# Altium footprint library SEG_pressure gauge_don  V3.0.PcbLib: 25 footprints (part 1 of 2)
Each footprint in its own frame and in the unit in brackets; x right, y up, seen from the top. Pads: shape width x height; smd on the part's side, far side on the other; paste and mask are expansions set on the pad; w line width, h text height; cw(c..) or ccw(c..) is an arc to the next point about the centre after c.
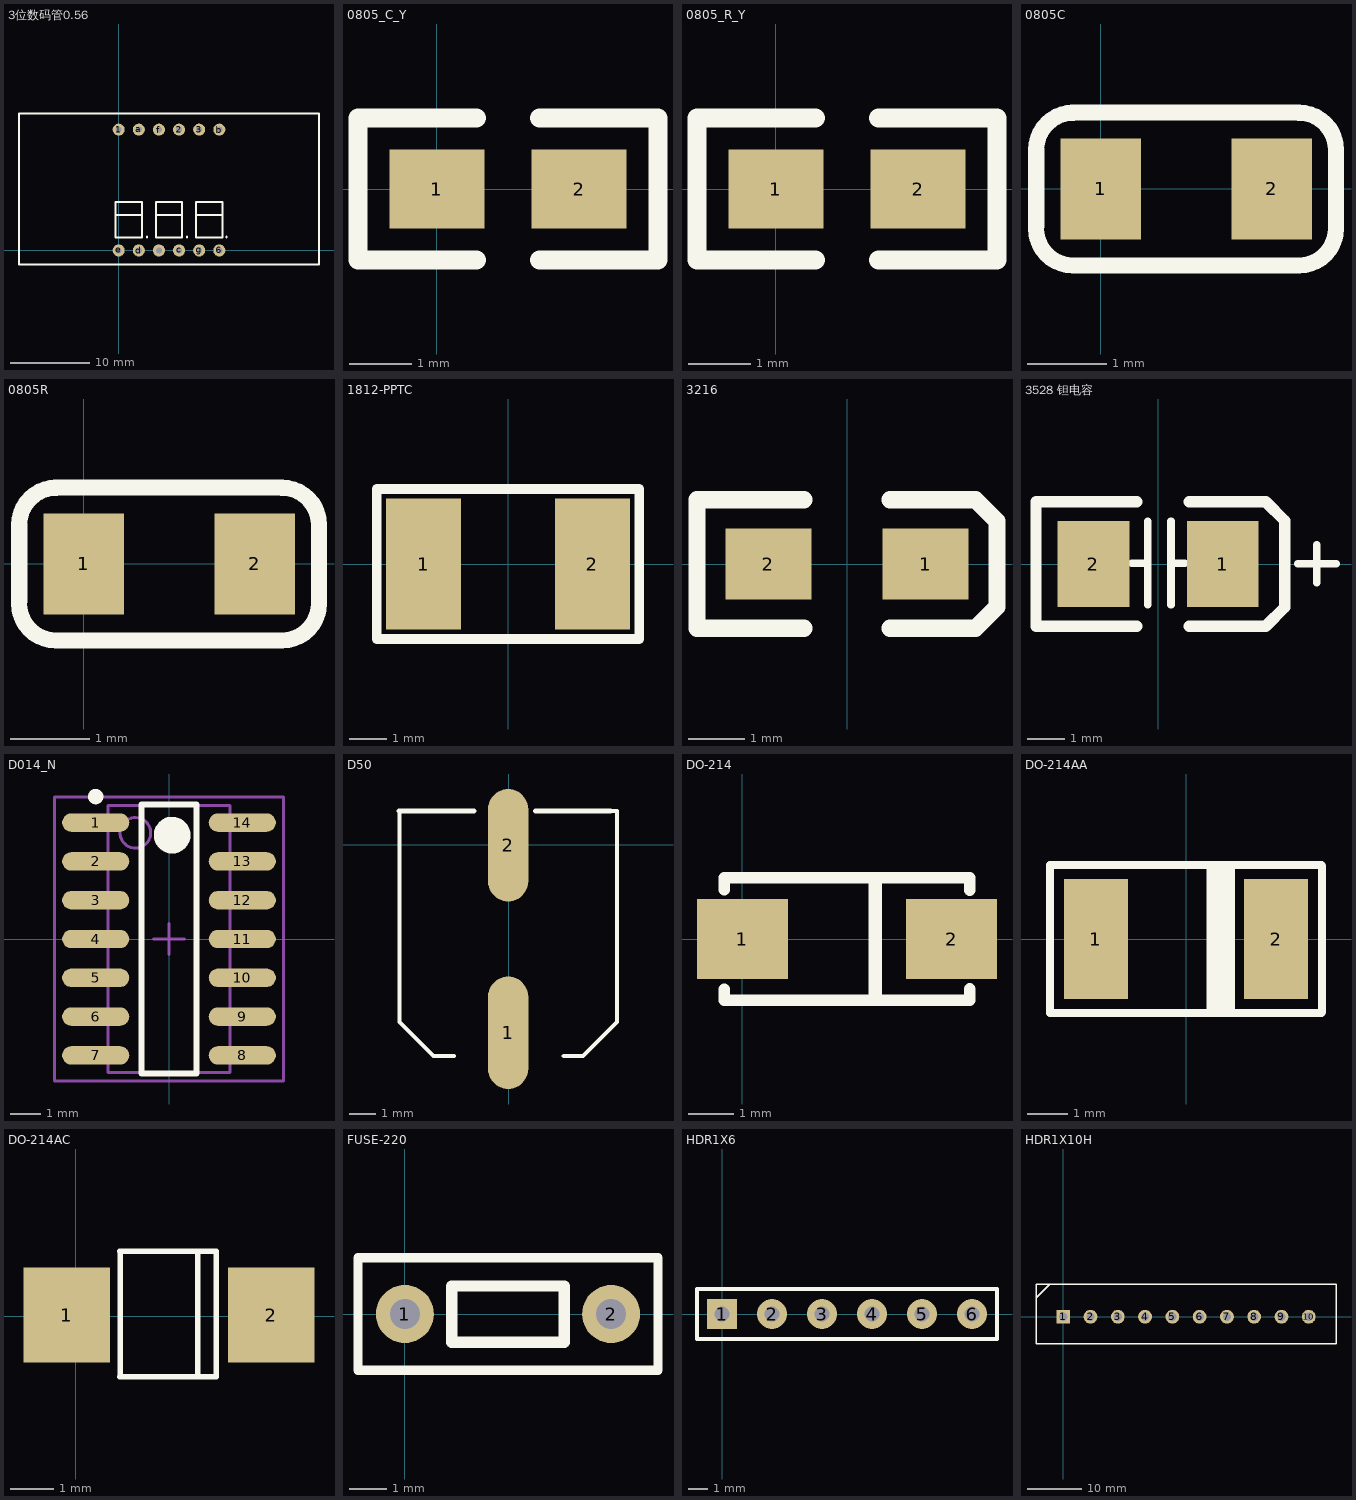
[diagram p0: the footprints below, top view; thin cyan lines are the x and y axes]

## 3位数码管0.56 [mil]
height 196.85
pads (12):
  round 60 hole 30: 1(0,600) 2(300,600) 3(400,600) 6(500,0) a(100,600) b(500,600) c(300,0) d(100,0) dot(200,0) e(0,0) f(200,600) g(400,0)
Top Overlay:
  lines w10: -15,175 115,175 ; 140,65 140,70 ; 185,175 315,175 ; 315,195 315,235 ; 340,65 340,70 ; 385,175 515,175 ; 535,65 535,70 ; -495,-70 -495,680 995,680 995,-70 -495,-70 ; -15,65 115,65 115,135 115,240 -15,240 -15,65 ; 185,65 185,240 315,240 315,135 315,65 185,65 ; 385,65 385,240 515,240 515,135 515,65 385,65

## 0805_C_Y [mil] "0805贴片电容（已加焊）"
height 66.93
pads (2):
  rect 60x50 smd: 1(0,0) 2(90,0)
Top Overlay:
  lines w12: 25,-45 -50,-45 -50,45 25,45 ; 65,-45 140,-45 140,45 65,45
3D body: height 14.17, standoff 0, extent -27.34,-25 117.34,25

## 0805_R_Y [mil] "0805贴片电阻（已加焊）"
height 62.99
pads (2):
  rect 60x50 smd: 1(0,0) 2(90,0)
Top Overlay:
  lines w12: 25,-45 -50,-45 -50,45 25,45 ; 65,-45 140,-45 140,45 65,45
3D body: height 14.17, standoff 0, extent -27.34,-25 117.34,25

## 0805C [mil]
height 39.37
pads (2):
  rect 40x50 smd: 1(0,0) 2(85,0)
Top Overlay:
  lines w8: -32.11,-19.59 ccw(c-13.7,-19.59) -13.7,-38 ; -32,-18.5 -32,18.5 ; -32,19.5 cw(c-13.59,19.5) -13.59,37.91 ; -14.12,38 98.09,38 ; -12.7,-38 98.11,-38 ; 98.59,-38 ccw(c98.59,-19.59) 117,-19.59 ; 98.59,37.91 cw(c98.59,19.5) 117,19.5 ; 117,-18.59 117,18.5
3D body: height 30.39, standoff -0.39, extent 3.15,-24.61 81.89,24.61

## 0805R [mil]
height 39.37
pads (2):
  rect 40x50 smd: 1(0,0) 2(85,0)
Top Overlay:
  lines w8: -32.11,-19.59 ccw(c-13.7,-19.59) -13.7,-38 ; -32,-18.5 -32,18.5 ; -32,19.5 cw(c-13.59,19.5) -13.59,37.91 ; -14.12,38 98.09,38 ; -12.7,-38 98.11,-38 ; 98.59,-38 ccw(c98.59,-19.59) 117,-19.59 ; 98.59,37.91 cw(c98.59,19.5) 117,19.5 ; 117,-18.59 117,18.5
3D body: height 30.39, standoff -0.39, extent 3.26,-24.61 82,24.61

## 1812-PPTC [mm]
height 1
pads (2):
  rect 2x3.5 smd: 1(-2.25,0) 2(2.25,0)
Top Overlay:
  lines w0.254: -3.5,-2 -3.5,2 3.5,2 3.5,-2 -3.5,-2
3D body: height 1.32, standoff 0, extent -2.41,-1.61 2.41,1.61

## 3216 [mil]
height 62.99
pads (2):
  rect 60x50 smd: 1(55,0) 2(-55,0)
Top Overlay:
  lines w12: -30,-45 -105,-45 -105,45 -30,45 ; 30,-45 90,-45 105,-30 105,30 90,45 30,45
3D body: height 62.99, standoff 0, extent -62.98,-31.5 63,31.5

## 3528 钽电容 [mil]
height 118.11
pads (2):
  rect 75x90 smd: 1(67.5,0) 2(-67.5,0)
Top Overlay:
  lines w7.87: 145.85,0.2 185.85,0.2 ; 165.85,-19.8 165.85,20.2
  lines w8: -27.38,0.79 -10.65,0.79 ; -10.65,-42.72 -10.65,44.69 ; 13.56,-42.72 13.56,44.69 ; 13.56,0.79 27.74,0.79
  lines w12: -22.5,-65 -127.5,-65 -127.5,65 -22.5,65 ; 32.5,-65 112.5,-65 132.5,-45 132.5,45 112.5,65 32.5,65
3D body: height 82.22, standoff -0.46, extent -72.64,-55.51 72.65,55.51

## D014_N [mm] "SOIC, 14-Leads, Body 8.7x3.9mm, Pitch 1.27mm, IPC Medium Density"
height 1.75
pads (14):
  oval 2.2x0.6 smd: 1(-2.4,3.81) 2(-2.4,2.54) 3(-2.4,1.27) 4(-2.4,0) 5(-2.4,-1.27) 6(-2.4,-2.54) 7(-2.4,-3.81) 8(2.4,-3.81) 9(2.4,-2.54) 10(2.4,-1.27) 11(2.4,0) 12(2.4,1.27) 13(2.4,2.54) 14(2.4,3.81)
Top Overlay:
  circle w0.25: c-2.4,4.66 r0.125
  circle w0.6: c0.1,3.4 r0.3
  lines w0.2: -0.9,-4.4 -0.9,4.4 0.9,4.4 0.9,-4.4 -0.9,-4.4
Mechanical 13:
  circle w0.1: c-1.1,3.475 r0.5
  lines w0.1: -2,-4.375 -2,4.375 2,4.375 2,-4.375 -2,-4.375
Mechanical 15:
  lines w0.1: -0.5,0 0.5,0 ; 0,-0.5 0,0.5 ; -3.75,-4.65 -3.75,4.65 3.75,4.65 3.75,-4.65 -3.75,-4.65
3D body: height 1.75, standoff 0, extent -2,-4.375 2,4.375

## D50 [mm]
height 1.7
pads (2):
  oval 1.5x4.2 smd: 1(-0.014,-7.015) 2(-0.014,-0.015)
Top Overlay:
  lines w0.15: -4.071,-5.85 -4.071,0.95 ; 4.057,-5.792 4.057,1.008
  lines w0.152: -4.097,1.262 -4.071,1.236 -4.071,0.95 ; -4.071,-5.85 -4.071,-6.612 -2.801,-7.882 -2.039,-7.882 ; 2.061,-7.882 2.787,-7.882 4.057,-6.612 4.057,-5.792 ; 3.803,1.262 4.057,1.262 4.057,1.008
  lines w0.178: -4.097,1.262 -1.277,1.262 ; 1.009,1.262 3.803,1.262

## DO-214 [mm]
height 2.7
pads (2):
  rect 2x1.75 smd: 1(0,0) 2(4.6,0)
Top Overlay:
  lines w0.254: -0.4,-1.105 -0.4,-1.35 5,-1.35 5,-1.1 ; -0.4,1.08 -0.4,1.35 4.995,1.35 ; 5,1.075 5,1.35
  lines w0.3: 2.92,-1.3 2.92,1.3
3D body: height 2.12, standoff -0.02, extent -0.198,-1.342 4.908,1.325

## DO-214AA [mm]
height 2.24
pads (2):
  rect 1.59x3 smd: 1(-2.25,0) 2(2.25,0)
Top Overlay:
  lines w0.2: -3.4,-1.854 -3.4,1.854 ; -3.389,-1.85 3.389,-1.85 ; -3.389,1.85 3.389,1.85 ; 3.4,-1.829 3.4,1.829
  lines w0.203: 0.61,-1.778 0.61,1.829 ; 1.118,-1.803 1.118,1.829
  lines w0.254: 0.838,-1.803 0.838,1.829 ; 0.991,-1.803 0.991,1.803
3D body: height 2.32, standoff 0.02, extent -2.7,-1.771 2.7,1.829

## DO-214AC [mm]
height 1.6
pads (2):
  rect 2x2.2 smd: 1(-0.218,0.024) 2(4.524,0.023)
Top Overlay:
  lines w0.127: 1.018,-1.398 3.231,-1.398 ; 1.018,1.497 3.232,1.497 ; 1.024,-1.399 1.024,1.497 ; 2.82,-1.399 2.82,1.497 ; 3.244,-1.399 3.244,1.497

## FUSE-220 [mil]
height 35.43
pads (2):
  round 62 hole 32: 1(0,0) 2(220,0)
Top Overlay:
  lines w10: -50,-60 270,-60 270,60 -50,60 -50,-60
  lines w12: 50,-30 170,-30 170,0 170,20 170,30 50,30 50,-30

## HDR1X6 [mil] "Connector; Header; 6 Position"
pads (6):
  rect 60x60 hole 30: 1(0,0)
  round 60 hole 30: 2(100,0) 3(200,0) 4(300,0) 5(400,0) 6(500,0)
Top Overlay:
  lines w7.87: -50,-50 550,-50 550,50 -50,50 -50,-50

## HDR1X10H [mil] "Connector; Header; 10 Position; Right Angle"
pads (10):
  rect 100x100 hole 60: 1(0,0)
  round 100 hole 60: 2(196.85,0) 3(393.7,0) 4(590.55,0) 5(787.4,0) 6(984.25,0) 7(1181.1,0) 8(1377.95,0) 9(1574.8,0) 10(1771.65,0)
Top Overlay:
  lines w10: -196.85,137.8 -98.43,236.22 ; -196.85,-196.85 1968.5,-196.85 1968.5,236.22 1415,236.22 -196.85,236.22 -196.85,196.85 -196.85,0 -196.85,-196.85